# Altium footprint library PCB - CONNECTOR -TE - TE 282837-7.PcbLib: 1 footprints
Each footprint in its own frame and in the unit in brackets; x right, y up, seen from the top. Pads: shape width x height; smd on the part's side, far side on the other; paste and mask are expansions set on the pad; w line width, h text height; cw(c..) or ccw(c..) is an arc to the next point about the centre after c.
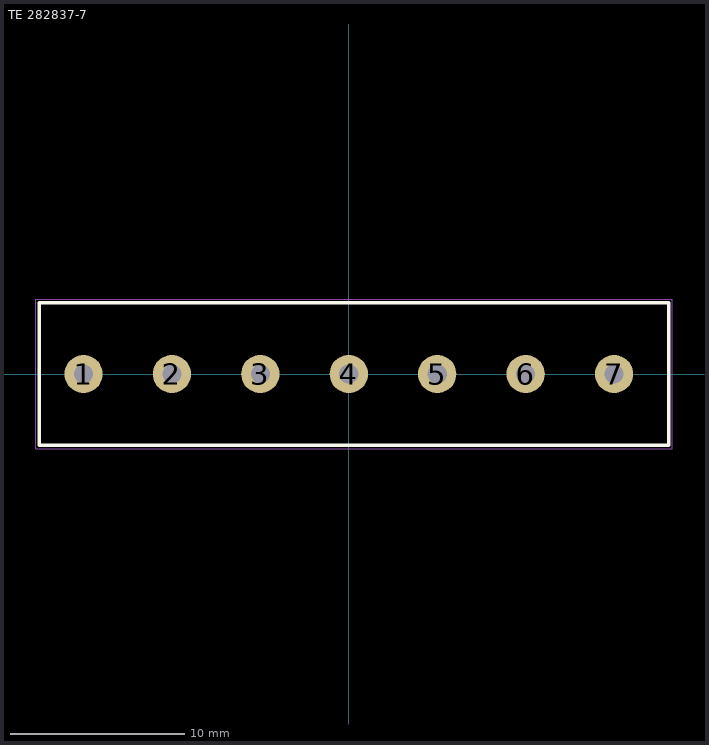
[diagram p0: the footprint, top view; thin cyan lines are the x and y axes]

## TE 282837-7 [mm] "Wire to Board Terminal Block Horizontal with Board, 7 Postions, Body 36.16x8.2mm, Pitch 5.08mm"
height 10.3
pads (7):
  round 2.2 hole 1.1: 1(-15.24,0) 2(-10.16,0) 3(-5.08,0) 4(0,0) 5(5.08,0) 6(10.16,0) 7(15.24,0)
Top Overlay:
  lines w0.2: -17.78,-4.1 18.38,-4.1 18.38,4.1 -17.78,4.1 -17.78,-4.1
Mechanical 13:
  lines w0.1: -17.78,-4.1 18.38,-4.1 18.38,4.1 -17.78,4.1 -17.78,-4.1
Mechanical 15 (Mech15):
  lines w0.05: -17.98,-4.3 -17.98,4.3 18.58,4.3 18.58,-4.3 -17.98,-4.3
  lines w0.1: -0.508,0 0,0 ; 0,-0.508 0,0 ; 0,0.508 0,0 ; 0.508,0 0,0
3D body "TE - 282837-7.stp": height 10.3, standoff -3.8, extent -17.78,-4.1 18.38,4.1